# EAGLE library part BMP280 (library Scott-Sensors)
Digital Pressure Sensor
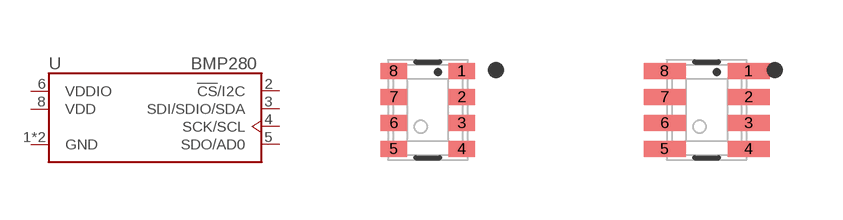
[diagram p1: symbol with the pads of BMP280; footprints BMP280, BMP280-LONG]

Designator prefix U

## BMP280  [BMP280]
1  GND  in
2  !CS!/I2C  in
3  SDI/SDIO/SDA
4  SCK/SCL  in
5  SDO/AD0
6  VDDIO  in
7  GND  in
8  VDD  in

## BMP280-LONG  [BMP280-LONG]
Pads as for BMP280

## Footprint BMP280 (pad centres in mm)
smd 0.65 x 0.4: 1 0.85,0.975; 2 0.85,0.325; 3 0.85,-0.325; 4 0.85,-0.975; 5 -0.85,-0.975; 6 -0.85,-0.325; 7 -0.85,0.325; 8 -0.85,0.975

## Footprint BMP280-LONG (pad centres in mm)
smd 1.05 x 0.4: 1 1.05,0.975; 2 1.05,0.325; 3 1.05,-0.325; 4 1.05,-0.975; 5 -1.05,-0.975; 6 -1.05,-0.325; 7 -1.05,0.325; 8 -1.05,0.975